# EAGLE library part ATSAMD1*C14A-SS (library maxorig)
ATSAMD11C14A-SS - 32bit low-power Cortex M0+ microcontroller This part is for the 14 pin count pieces in the SAMD10 and SAMD11 series of low-power microcontrollers. The SAMD11 series adds USB to SAMD10 series. Includes Atmel's configurable serial interfaces (SERCOMs) which can be configured to be a UART, I2C, LIN, or SPI. Technical specifications: VCC: 1.62-3.63V Core frequency up to 48MHz Program flash: 16kb RAM: 4kb SERCOMS: 2 GPIOs: 12 ADC channels: 5 ADC resolution: 12 bits DACs: 1
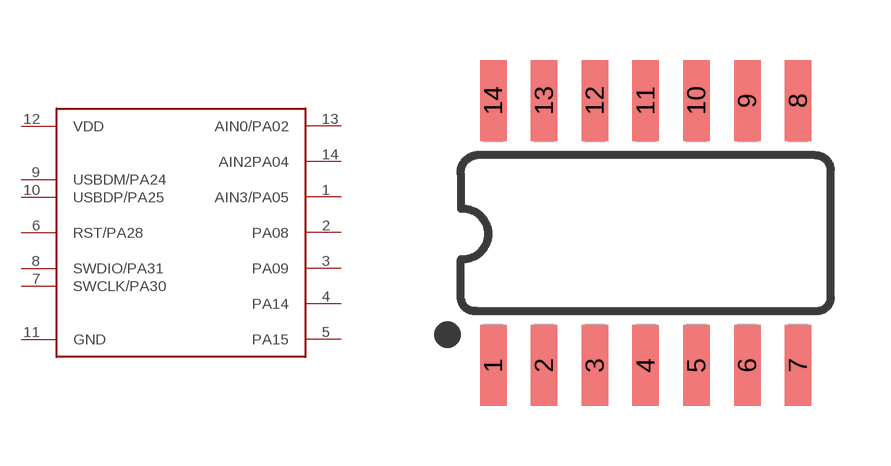
[diagram p0: symbol with the pads of SOIC-14; footprint SOIC-14]

Designator prefix -

## ATSAMD1C14A-SS  [SOIC-14]
1  AIN3/PA05
2  PA08
3  PA09
4  PA14
5  PA15
6  RST/PA28
7  SWCLK/PA30
8  SWDIO/PA31
9  USBDM/PA24
10  USBDP/PA25
11  GND
12  VDD
13  AIN0/PA02
14  AIN2PA04

## Footprint SOIC-14 (pad centres in mm)
smd 0.66 x 2.032: 1 -4.445,-3.315; 2 -3.175,-3.315; 3 -1.905,-3.315; 4 -0.635,-3.315; 5 0.635,-3.315; 6 1.905,-3.315; 7 3.175,-3.315; 8 3.175,3.315; 9 1.905,3.315; 10 0.635,3.315; 11 -0.635,3.315; 12 -1.905,3.315; 13 -3.175,3.315; 14 -4.445,3.315